# Altium schematic symbol library H11L1.SchLib: 1 symbol
Pins are listed as number, name and electrical type; pins without a type are passive.

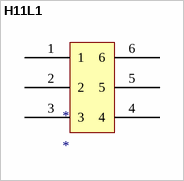
[diagram p0: symbol H11L1]

## H11L1
designator *
pins: 1, 2, 3, 4, 5, 6